# Altium footprint library SOIC.PcbLib: 8 footprints
Each footprint in its own frame and in the unit in brackets; x right, y up, seen from the top. Pads: shape width x height; smd on the part's side, far side on the other; paste and mask are expansions set on the pad; w line width, h text height; cw(c..) or ccw(c..) is an arc to the next point about the centre after c.
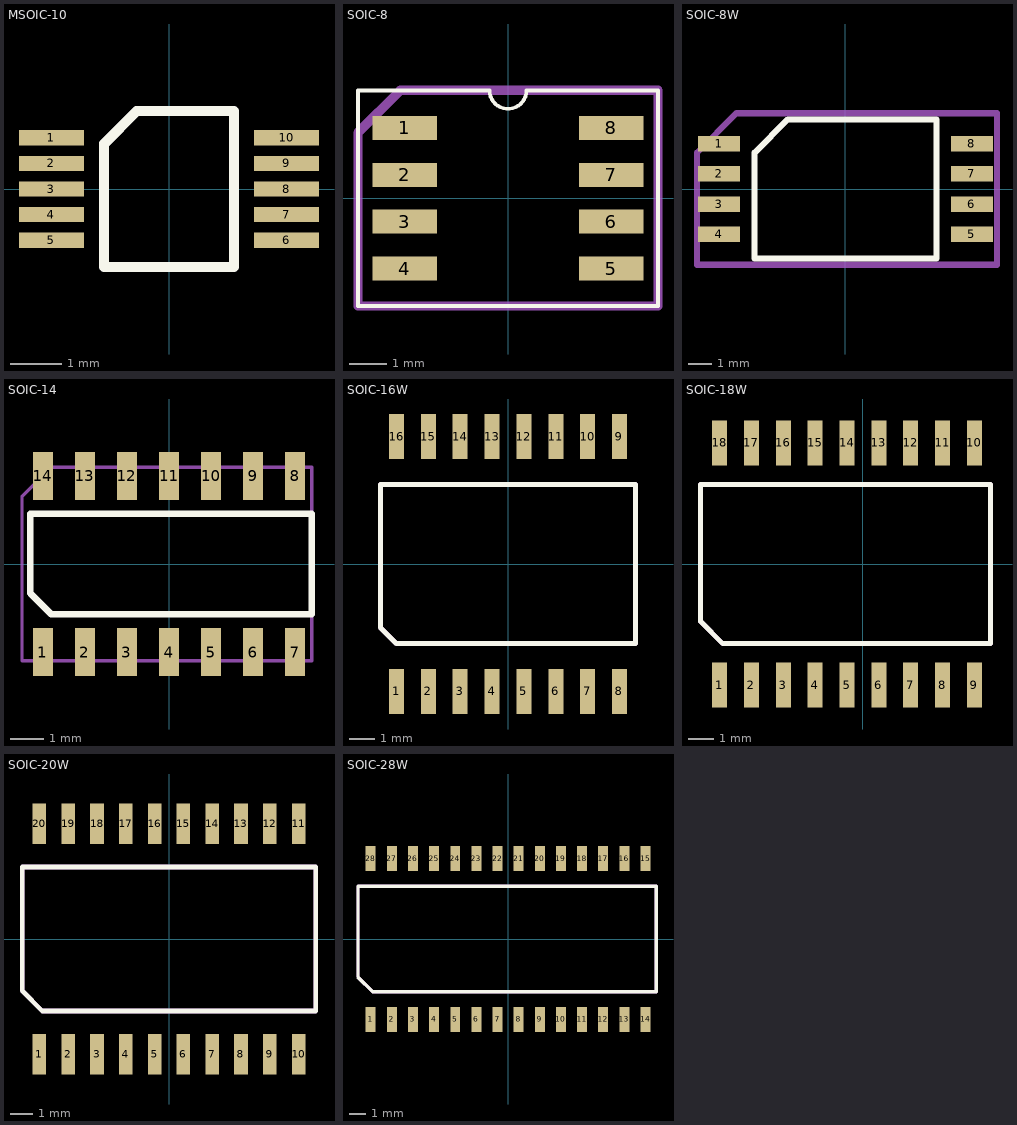
[diagram p0: the footprints below, top view; thin cyan lines are the x and y axes]

## MSOIC-10 [mm]
pads (10):
  rect 1.27x0.3 smd: 1(-2.3,1) 2(-2.3,0.5) 3(-2.3,0) 4(-2.3,-0.5) 5(-2.3,-1) 6(2.3,-1) 7(2.3,-0.5) 8(2.3,0) 9(2.3,0.5) 10(2.3,1)
Top Overlay:
  lines w0.2: -1.27,-1.524 1.27,-1.524 1.27,1.524 -0.635,1.524 -1.27,0.889 -1.27,-1.524
3D body "msop-10.STEP": height 1.15, standoff 0, extent -2.45,-1.5 2.45,1.5

## SOIC-8 [mm]
pads (8):
  rect 1.75x0.65 smd: 1(-2.8,1.905) 2(-2.8,0.635) 3(-2.8,-0.635) 4(-2.8,-1.905) 5(2.8,-1.905) 6(2.8,-0.635) 7(2.8,0.635) 8(2.8,1.905)
Top Overlay:
  lines w0.1: -4.064,-2.921 -4.064,2.921 -0.5,2.921 ccw(c0,2.921) 0.5,2.921 4.064,2.921 4.064,-2.921 -4.064,-2.921
TopAssy:
  lines w0.254: -4.064,-2.921 -4.064,1.778 -2.921,2.921 4.064,2.921 4.064,-2.921 -4.064,-2.921
  text ".Designator" at -2.286,-0.381 h1.52
3D body "soic-8.step": height 1.7, standoff 0, extent -3,-2.45 3,2.45

## SOIC-8W [mm]
pads (8):
  rect 1.75x0.65 smd: 1(-5.3,1.905) 2(-5.3,0.635) 3(-5.3,-0.635) 4(-5.3,-1.905) 5(5.3,-1.905) 6(5.3,-0.635) 7(5.3,0.635) 8(5.3,1.905)
Top Overlay:
  lines w0.254: -3.81,-2.921 3.81,-2.921 3.81,2.921 -2.413,2.921 -3.81,1.524 -3.81,-2.921
TopAssy:
  lines w0.254: -6.223,-3.175 6.35,-3.175 6.35,3.175 -4.572,3.175 -6.223,1.524 -6.223,-3.175
  text ".Designator" at -2.286,-0.381 h1.52
3D body "SOIC-8_W.step": height 2.7, standoff 0, extent -5.623,-2.95 5.877,2.95

## SOIC-14 [mm]
height 1.75
pads (14):
  rect 0.6x1.45 smd: 1(-3.81,-2.667) 2(-2.54,-2.667) 3(-1.27,-2.667) 4(0,-2.667) 5(1.27,-2.667) 6(2.54,-2.667) 7(3.81,-2.667) 8(3.81,2.667) 9(2.54,2.667) 10(1.27,2.667) 11(0,2.667) 12(-1.27,2.667) 13(-2.54,2.667) 14(-3.81,2.667)
Top Overlay:
  lines w0.2: -4.191,-0.889 -4.191,1.524 4.318,1.524 4.318,-1.524 -3.556,-1.524 -4.191,-0.889
TopAssy:
  lines w0.1: -4.445,-2.921 4.318,-2.921 4.318,2.921 -3.556,2.921 -4.445,2.032 -4.445,-2.921
  text ".Designator" at -1.905,-0.381 h1.52
3D body "SOIC14-150.step": height 1.75, standoff 0, extent -4.275,-2.9 4.275,2.9

## SOIC-16W [mm]
height 1.75
pads (16):
  rect 0.6x1.8 smd: 1(-4.445,-5.08) 2(-3.175,-5.08) 3(-1.905,-5.08) 4(-0.635,-5.08) 5(0.635,-5.08) 6(1.905,-5.08) 7(3.175,-5.08) 8(4.445,-5.08) 9(4.445,5.08) 10(3.175,5.08) 11(1.905,5.08) 12(0.635,5.08) 13(-0.635,5.08) 14(-1.905,5.08) 15(-3.175,5.08) 16(-4.445,5.08)
Top Overlay:
  lines w0.2: -5.08,-2.54 -4.445,-3.175 5.08,-3.175 5.08,3.175 -5.08,3.175 -5.08,-2.54
TopAssy:
  lines w0.2: -5.08,-2.54 -5.08,3.175 5.08,3.175 5.08,-3.175 -4.445,-3.175 -5.08,-2.54
  text ".Designator" at -1.905,-0.381 h1.52
3D body "SOIC16_Wide_JEDEC_MS-013AA.step": height 2.62, standoff -0.03, extent -5.25,-5.315 5.25,5.315

## SOIC-18W [mm]
height 1.75
pads (18):
  rect 0.6x1.8 smd: 1(-5.715,-4.826) 2(-4.445,-4.826) 3(-3.175,-4.826) 4(-1.905,-4.826) 5(-0.635,-4.826) 6(0.635,-4.826) 7(1.905,-4.826) 8(3.175,-4.826) 9(4.445,-4.826) 10(4.445,4.826) 11(3.175,4.826) 12(1.905,4.826) 13(0.635,4.826) 14(-0.635,4.826) 15(-1.905,4.826) 16(-3.175,4.826) 17(-4.445,4.826) 18(-5.715,4.826)
Top Overlay:
  lines w0.2: -6.477,-2.286 -6.477,3.175 5.08,3.175 5.08,-3.175 -5.588,-3.175 -6.477,-2.286
TopAssy:
  lines w0.2: -6.477,-2.286 -5.588,-3.175 5.08,-3.175 5.08,3.175 -6.477,3.175 -6.477,-2.286
  text ".Designator" at -1.905,-0.381 h1.52
3D body "SOIC18-300.step": height 2.65, standoff 0, extent -6.4,-5.15 5.13,5.15

## SOIC-20W [mm]
height 1.75
pads (20):
  rect 0.6x1.8 smd: 1(-5.715,-5.08) 2(-4.445,-5.08) 3(-3.175,-5.08) 4(-1.905,-5.08) 5(-0.635,-5.08) 6(0.635,-5.08) 7(1.905,-5.08) 8(3.175,-5.08) 9(4.445,-5.08) 10(5.715,-5.08) 11(5.715,5.08) 12(4.445,5.08) 13(3.175,5.08) 14(1.905,5.08) 15(0.635,5.08) 16(-0.635,5.08) 17(-1.905,5.08) 18(-3.175,5.08) 19(-4.445,5.08) 20(-5.715,5.08)
Top Overlay:
  lines w0.2: -6.477,-2.286 -6.477,3.175 6.477,3.175 6.477,-3.175 -5.588,-3.175 -6.477,-2.286
TopAssy:
  lines w0.2: -6.477,-2.286 -5.588,-3.175 6.477,-3.175 6.477,3.175 -6.477,3.175 -6.477,-2.286
  text ".Designator" at -1.905,-0.381 h1.52
3D body "SOIC20_W.STEP": height 2.65, standoff 0, extent -6.5,-5.325 6.5,5.325

## SOIC-28W [mm]
height 1.75
pads (28):
  rect 0.6x1.5 smd: 1(-8.255,-4.826) 2(-6.985,-4.826) 3(-5.715,-4.826) 4(-4.445,-4.826) 5(-3.175,-4.826) 6(-1.905,-4.826) 7(-0.635,-4.826) 8(0.635,-4.826) 9(1.905,-4.826) 10(3.175,-4.826) 11(4.445,-4.826) 12(5.715,-4.826) 13(6.985,-4.826) 14(8.255,-4.826) 15(8.255,4.826) 16(6.985,4.826) 17(5.715,4.826) 18(4.445,4.826) 19(3.175,4.826) 20(1.905,4.826) 21(0.635,4.826) 22(-0.635,4.826) 23(-1.905,4.826) 24(-3.175,4.826) 25(-4.445,4.826) 26(-5.715,4.826) 27(-6.985,4.826) 28(-8.255,4.826)
Top Overlay:
  lines w0.2: -9.017,-2.286 -8.128,-3.175 8.89,-3.175 8.89,3.175 -9.017,3.175 -9.017,-2.286
TopAssy:
  lines w0.2: -9.017,-2.286 -9.017,3.175 8.89,3.175 8.89,-3.175 -8.128,-3.175 -9.017,-2.286
  text ".Designator" at -4.445,-0.381 h1.52
3D body "SOIC28-300.step": height 2.65, standoff 0, extent -9.017,-5.15 8.883,5.15